# Altium footprint library SODFL4725X110N.PcbLib: 1 footprints
Each footprint in its own frame and in the unit in brackets; x right, y up, seen from the top. Pads: shape width x height; smd on the part's side, far side on the other; paste and mask are expansions set on the pad; w line width, h text height; cw(c..) or ccw(c..) is an arc to the next point about the centre after c.
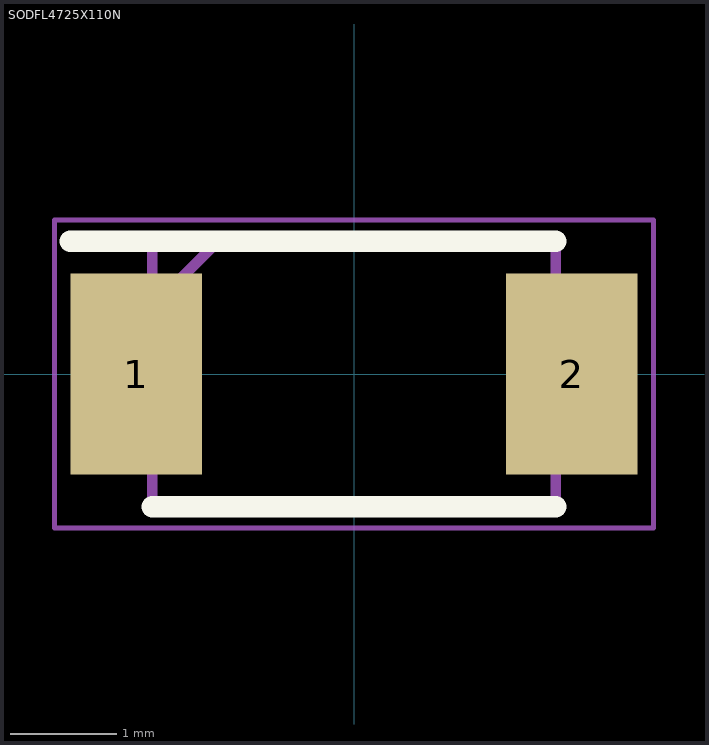
[diagram p0: the footprint, top view; thin cyan lines are the x and y axes]

## SODFL4725X110N [mm]
pads (2):
  rect 1.24x1.89 smd: 1(-2.05,0) 2(2.05,0)
Top Overlay:
  lines w0.2: -2.67,1.25 1.9,1.25 ; -1.9,-1.25 1.9,-1.25
Mechanical 15:
  lines w0.1: -1.9,0.63 -1.28,1.25 ; -1.9,-1.25 1.9,-1.25 1.9,1.25 -1.9,1.25 -1.9,-1.25
Mechanical 20:
  lines w0.05: -2.82,-1.45 2.82,-1.45 2.82,1.45 -2.82,1.45 -2.82,-1.45